# Altium integrated library Maxim Memory.IntLib: 366 symbols (part 1 of 7)
Pins are listed as number, name and electrical type; pins without a type are passive.

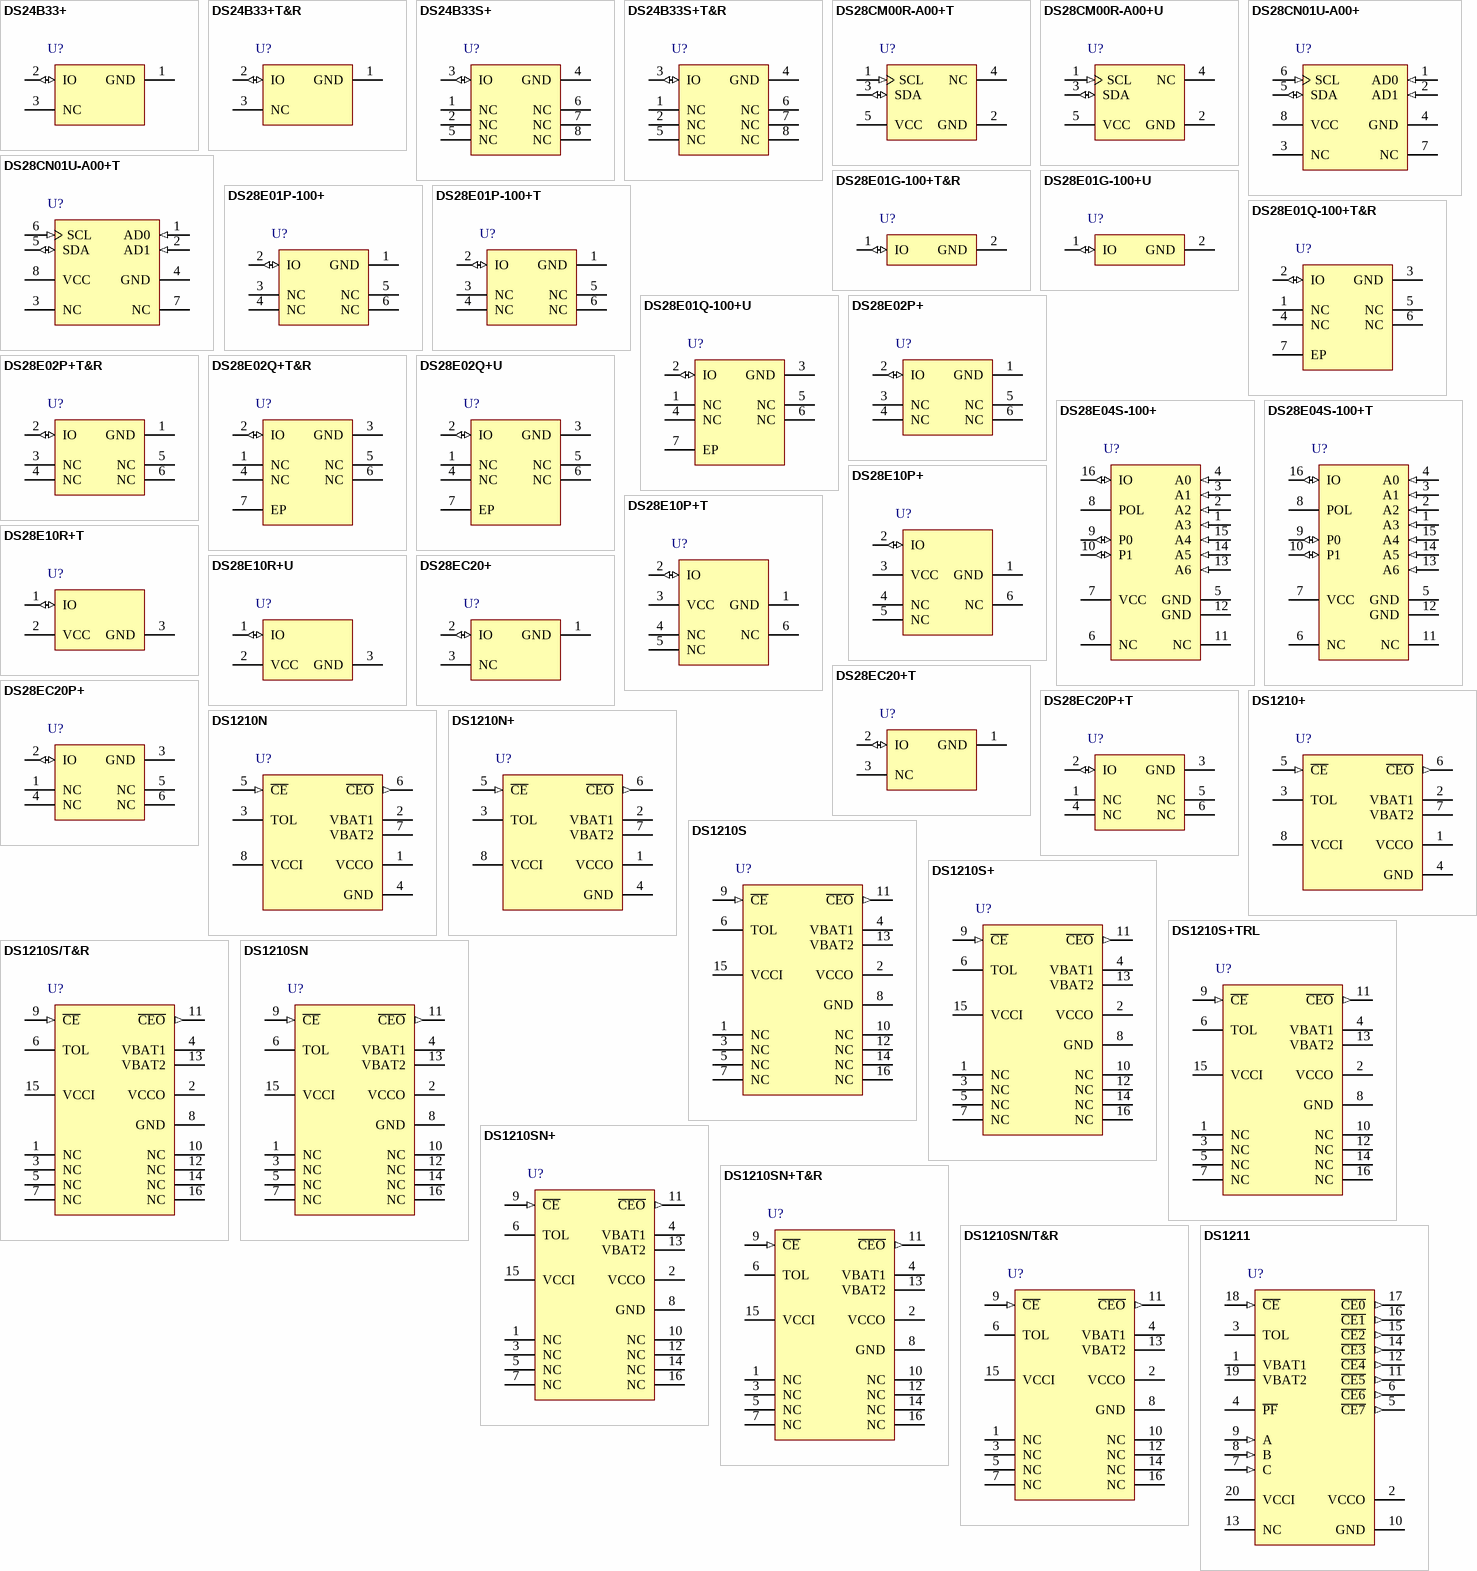
[diagram p0: symbols DS24B33+ to DS1211]

## DS24B33+
designator U?
4Kb 1-Wire EEPROM with 200k Write/Erase Cycles, 3-pin TO-92, -40° to + 85° C, Pb-Free; DatasheetVersion: 1/02/2011; PackageVersion: revB, 2009; PackageReference: Q3+1; PackageDescription: TO-92 Package, Body Dia. 4.7mm; Leads 0.51 x 0.51 mm (max), Pb-Free; Code_JEDEC: TO-226-AA; ComponentLink1Description: Manufacturer URL; ComponentLink1URL: www.maxim-ic.com; ComponentLink2Description: Datasheet; ComponentLink2URL: http://datasheets.maxim-ic.com/en/ds/DS24B33.pdf
footprint Q3+1 (TO, Flat Index; 3 In-Line, Axial Leads; Body Dia. 4.7mm; Leads 0.56 x 0.51 mm (max))
pins: 1 GND (power), 2 IO (io), 3 NC

## DS24B33+T&R
designator U?
4Kb 1-Wire EEPROM with 200k Write/Erase Cycles, 3-pin TO-92, -40° to + 85° C, Pb-Free, Tape and Reel; DatasheetVersion: 1/02/2011; PackageVersion: revB, 2010; PackageReference: Q3+4; PackageDescription: TO-92 Package, Formed Leads, Body Dia. 4.7mm; Leads 0.51 x 0.51 mm (max), Pb-Free; Code_JEDEC: TO-226-AA; ComponentLink1Description: Manufacturer URL; ComponentLink1URL: www.maxim-ic.com; ComponentLink2Description: Datasheet; ComponentLink2URL: http://datasheets.maxim-ic.com/en/ds/DS24B33.pdf
footprint Q3+4 (TO, Flat Index; 3 In-Line, Formed Axial Leads; Body Dia. 4.7mm; Leads 0.56 x 0.51 mm (max))
pins: 1 GND (power), 2 IO (io), 3 NC

## DS24B33S+
designator U?
4Kb 1-Wire EEPROM with 200k Write/Erase Cycles, 8-pin SOIC (208 mils), -40° to + 85° C, Pb-Free; DatasheetVersion: 1/02/2011; PackageVersion: revB, 2010; PackageReference: W8+2; PackageDescription: 8-Pin Small-Outline IC, 0.208in, 1.27 mm Pitch, SOIC, Pb-Free; ComponentLink1Description: Manufacturer URL; ComponentLink1URL: www.maxim-ic.com; ComponentLink2Description: Datasheet; ComponentLink2URL: http://datasheets.maxim-ic.com/en/ds/DS24B33.pdf
footprint W8+2_N (SOP, 8-Leads, Body 5.3x5.3mm, Pitch 1.27mm, IPC Medium Density)
footprint W8+2_L (SOP, 8-Leads, Body 5.3x5.3mm, Pitch 1.27mm, IPC High Density)
footprint W8+2_M (SOP, 8-Leads, Body 5.3x5.3mm, Pitch 1.27mm, IPC Low Density)
pins: 1 NC, 2 NC, 3 IO (io), 4 GND (power), 5 NC, 6 NC, 7 NC, 8 NC

## DS24B33S+T&R
designator U?
4Kb 1-Wire EEPROM with 200k Write/Erase Cycles, 8-pin SOIC (208 mils), -40° to + 85° C, Pb-Free, Tape and Reel; DatasheetVersion: 1/02/2011; PackageVersion: revB, 2010; PackageReference: W8+2; PackageDescription: 8-Pin Small-Outline IC, 0.208in, 1.27 mm Pitch, SOIC, Pb-Free; ComponentLink1Description: Manufacturer URL; ComponentLink1URL: www.maxim-ic.com; ComponentLink2Description: Datasheet; ComponentLink2URL: http://datasheets.maxim-ic.com/en/ds/DS24B33.pdf
footprint W8+2_N (SOP, 8-Leads, Body 5.3x5.3mm, Pitch 1.27mm, IPC Medium Density)
footprint W8+2_L (SOP, 8-Leads, Body 5.3x5.3mm, Pitch 1.27mm, IPC High Density)
footprint W8+2_M (SOP, 8-Leads, Body 5.3x5.3mm, Pitch 1.27mm, IPC Low Density)
pins: 1 NC, 2 NC, 3 IO (io), 4 GND (power), 5 NC, 6 NC, 7 NC, 8 NC

## DS28CM00R-A00+T
designator U?
I²C/SMBus Silicon Serial Number, 5-pin SOT23, -40° to + 85° C, Pb-Free, Tape and Reel; DatasheetVersion: 1/11/2006; PackageVersion: revF, 2006; PackageReference: U5+1; PackageDescription: 5-Pin Small-Outline Transistor Package, 0.95 mm Pitch, 2.8 mm Lead Span, SOT-23, Pb-Free; Code_JEDEC: MO-178AA; ComponentLink1Description: Manufacturer URL; ComponentLink1URL: www.maxim-ic.com; ComponentLink2Description: Datasheet; ComponentLink2URL: http://datasheets.maxim-ic.com/en/ds/DS28CM00.pdf
footprint U5+1_N (SOT23, 5-Leads, Body 2.9x1.6mm, Pitch 0.95mm, Lead Span 2.8mm, IPC Medium Density)
footprint U5+1_L (SOT23, 5-Leads, Body 2.9x1.6mm, Pitch 0.95mm, Lead Span 2.8mm, IPC High Density)
footprint U5+1_M (SOT23, 5-Leads, Body 2.9x1.6mm, Pitch 0.95mm, Lead Span 2.8mm, IPC Low Density)
pins: 1 SCL (in), 2 GND (power), 3 SDA (io), 4 NC, 5 VCC (power)

## DS28CM00R-A00+U
designator U?
I²C/SMBus Silicon Serial Number, 5-pin SOT23, -40° to + 85° C, Pb-Free, Cut Tape; DatasheetVersion: 1/11/2006; PackageVersion: revF, 2006; PackageReference: U5+1; PackageDescription: 5-Pin Small-Outline Transistor Package, 0.95 mm Pitch, 2.8 mm Lead Span, SOT-23, Pb-Free; Code_JEDEC: MO-178AA; ComponentLink1Description: Manufacturer URL; ComponentLink1URL: www.maxim-ic.com; ComponentLink2Description: Datasheet; ComponentLink2URL: http://datasheets.maxim-ic.com/en/ds/DS28CM00.pdf
footprint U5+1_N (SOT23, 5-Leads, Body 2.9x1.6mm, Pitch 0.95mm, Lead Span 2.8mm, IPC Medium Density)
footprint U5+1_L (SOT23, 5-Leads, Body 2.9x1.6mm, Pitch 0.95mm, Lead Span 2.8mm, IPC High Density)
footprint U5+1_M (SOT23, 5-Leads, Body 2.9x1.6mm, Pitch 0.95mm, Lead Span 2.8mm, IPC Low Density)
pins: 1 SCL (in), 2 GND (power), 3 SDA (io), 4 NC, 5 VCC (power)

## DS28CN01U-A00+
designator U?
1Kb I2C/SMBus EEPROM with SHA-1 Engine, 8-pin uSOP, -40° to + 85° C, Pb-Free; DatasheetVersion: 1/11/2009; PackageVersion: revL, 2009; PackageReference: U8+3; PackageDescription: 8-Pin Micro-MAX, Thin Shrink Small-Outline, 0.65 mm Pitch, uMAX, uSOP, Pb-Free; Code_JEDEC: MO-187-AA; ComponentLink1Description: Manufacturer URL; ComponentLink1URL: www.maxim-ic.com; ComponentLink2Description: Datasheet; ComponentLink2URL: http://datasheets.maxim-ic.com/en/ds/DS28CN01.pdf
footprint U8+3_N (TSOP, 8-Leads, Body 3x3mm, Pitch 0.65mm, IPC Medium Density)
footprint U8+3_L (TSOP, 8-Leads, Body 3x3mm, Pitch 0.65mm, IPC High Density)
footprint U8+3_M (TSOP, 8-Leads, Body 3x3mm, Pitch 0.65mm, IPC Low Density)
pins: 1 AD0 (in), 2 AD1 (in), 3 NC, 4 GND (power), 5 SDA (io), 6 SCL (in), 7 NC, 8 VCC (power)

## DS28CN01U-A00+T
designator U?
1Kb I2C/SMBus EEPROM with SHA-1 Engine, 8-pin uSOP, -40° to + 85° C, Pb-Free, Tape and Reel; DatasheetVersion: 1/11/2009; PackageVersion: revL, 2009; PackageReference: U8+3; PackageDescription: 8-Pin Micro-MAX, Thin Shrink Small-Outline, 0.65 mm Pitch, uMAX, uSOP, Pb-Free; Code_JEDEC: MO-187-AA; ComponentLink1Description: Manufacturer URL; ComponentLink1URL: www.maxim-ic.com; ComponentLink2Description: Datasheet; ComponentLink2URL: http://datasheets.maxim-ic.com/en/ds/DS28CN01.pdf
footprint U8+3_N (TSOP, 8-Leads, Body 3x3mm, Pitch 0.65mm, IPC Medium Density)
footprint U8+3_L (TSOP, 8-Leads, Body 3x3mm, Pitch 0.65mm, IPC High Density)
footprint U8+3_M (TSOP, 8-Leads, Body 3x3mm, Pitch 0.65mm, IPC Low Density)
pins: 1 AD0 (in), 2 AD1 (in), 3 NC, 4 GND (power), 5 SDA (io), 6 SCL (in), 7 NC, 8 VCC (power)

## DS28E01G-100+T&R
designator U?
1Kb Protected 1-Wire EEPROM with SHA-1 Engine, 2-pin SFN, -40° to + 85° C, Pb-Free, Tape and Reel; DatasheetVersion: 1/07/2010; PackageVersion: revB, 2009; PackageReference: G266N+1; PackageDescription: 2-Pin Quad Flatpack, No Leads, 6 x 6 x 0.9 mm Body, SFN, Pb-Free; ComponentLink1Description: Manufacturer URL; ComponentLink1URL: www.maxim-ic.com; ComponentLink2Description: Datasheet; ComponentLink2URL: http://datasheets.maxim-ic.com/en/ds/DS28E01-100.pdf
footprint G266N+1 (SFN, 2-Leads, Body 6x6mm)
pins: 1 IO (io), 2 GND (power)

## DS28E01G-100+U
designator U?
1Kb Protected 1-Wire EEPROM with SHA-1 Engine, 2-pin SFN, -40° to + 85° C, Pb-Free, Cut Tape; DatasheetVersion: 1/07/2010; PackageVersion: revB, 2009; PackageReference: G266N+1; PackageDescription: 2-Pin Quad Flatpack, No Leads, 6 x 6 x 0.9 mm Body, SFN, Pb-Free; ComponentLink1Description: Manufacturer URL; ComponentLink1URL: www.maxim-ic.com; ComponentLink2Description: Datasheet; ComponentLink2URL: http://datasheets.maxim-ic.com/en/ds/DS28E01-100.pdf
footprint G266N+1 (SFN, 2-Leads, Body 6x6mm)
pins: 1 IO (io), 2 GND (power)

## DS28E01P-100+
designator U?
1Kb Protected 1-Wire EEPROM with SHA-1 Engine, 6-pin TSOC, -40° to + 85° C, Pb-Free; DatasheetVersion: 1/07/2010; PackageVersion: revE, 2011; PackageReference: D6+1; PackageDescription: Thin Small-Outline, 6 C-Leads, 3.9 x 3.8 mm Body, 1.27 mm Pitch, TSOC, Pb-Free; ComponentLink1Description: Manufacturer URL; ComponentLink1URL: www.maxim-ic.com; ComponentLink2Description: Datasheet; ComponentLink2URL: http://datasheets.maxim-ic.com/en/ds/DS28E01-100.pdf
footprint D6+1 (Small Outline; 6 C-Bend Leads; Body Width 3.8 mm; Pitch 1.27 mm, Maxim Recommended)
pins: 1 GND (power), 2 IO (io), 3 NC, 4 NC, 5 NC, 6 NC

## DS28E01P-100+T
designator U?
1Kb Protected 1-Wire EEPROM with SHA-1 Engine, 6-pin TSOC, -40° to + 85° C, Pb-Free, Tape and Reel; DatasheetVersion: 1/07/2010; PackageVersion: revE, 2011; PackageReference: D6+1; PackageDescription: Thin Small-Outline, 6 C-Leads, 3.9 x 3.8 mm Body, 1.27 mm Pitch, TSOC, Pb-Free; ComponentLink1Description: Manufacturer URL; ComponentLink1URL: www.maxim-ic.com; ComponentLink2Description: Datasheet; ComponentLink2URL: http://datasheets.maxim-ic.com/en/ds/DS28E01-100.pdf
footprint D6+1 (Small Outline; 6 C-Bend Leads; Body Width 3.8 mm; Pitch 1.27 mm, Maxim Recommended)
pins: 1 GND (power), 2 IO (io), 3 NC, 4 NC, 5 NC, 6 NC

## DS28E01Q-100+T&R
designator U?
1Kb Protected 1-Wire EEPROM with SHA-1 Engine, 6-pin TDFN, -40° to + 85° C, Pb-Free, Tape and Reel; DatasheetVersion: 1/07/2010; PackageVersion: revJ, 2009; PackageReference: T633+2; PackageDescription: 6-Pin Plastic Very Very Thin Dual Flatpack No Leads, Exposed Pad, 3 x 3 x 0.8 mm Body, TDFN-EP, Pb-Free; Code_JEDEC: MO-229-WEEA; ComponentLink1Description: Manufacturer URL; ComponentLink1URL: www.maxim-ic.com; ComponentLink2Description: Datasheet; ComponentLink2URL: http://datasheets.maxim-ic.com/en/ds/DS28E01-100.pdf
footprint T633+2_V (SON, 6-Leads, Body 3x3mm, Pitch 0.95mm, Thermal Pad 2.35x1.6mm, Maxim Recommended)
pins: 1 NC, 2 IO (io), 3 GND (power), 4 NC, 5 NC, 6 NC, 7 EP

## DS28E01Q-100+U
designator U?
1Kb Protected 1-Wire EEPROM with SHA-1 Engine, 6-pin TDFN, -40° to + 85° C, Pb-Free, Cut Tape; DatasheetVersion: 1/07/2010; PackageVersion: revJ, 2009; PackageReference: T633+2; PackageDescription: 6-Pin Plastic Very Very Thin Dual Flatpack No Leads, Exposed Pad, 3 x 3 x 0.8 mm Body, TDFN-EP, Pb-Free; Code_JEDEC: MO-229-WEEA; ComponentLink1Description: Manufacturer URL; ComponentLink1URL: www.maxim-ic.com; ComponentLink2Description: Datasheet; ComponentLink2URL: http://datasheets.maxim-ic.com/en/ds/DS28E01-100.pdf
footprint T633+2_V (SON, 6-Leads, Body 3x3mm, Pitch 0.95mm, Thermal Pad 2.35x1.6mm, Maxim Recommended)
pins: 1 NC, 2 IO (io), 3 GND (power), 4 NC, 5 NC, 6 NC, 7 EP

## DS28E02P+
designator U?
1Kb 1-Wire SHA-1 Authenticated EEPROM with 1.8V Operation, 6-pin TSOC, -20° to + 85° C, Pb-Free; DatasheetVersion: 1/06/2010; PackageVersion: revE, 2011; PackageReference: D6+1; PackageDescription: Thin Small-Outline, 6 C-Leads, 3.9 x 3.8 mm Body, 1.27 mm Pitch, TSOC, Pb-Free; ComponentLink1Description: Manufacturer URL; ComponentLink1URL: www.maxim-ic.com; ComponentLink2Description: Datasheet; ComponentLink2URL: http://datasheets.maxim-ic.com/en/ds/DS28E02.pdf
footprint D6+1 (Small Outline; 6 C-Bend Leads; Body Width 3.8 mm; Pitch 1.27 mm, Maxim Recommended)
pins: 1 GND (power), 2 IO (io), 3 NC, 4 NC, 5 NC, 6 NC

## DS28E02P+T&R
designator U?
1Kb 1-Wire SHA-1 Authenticated EEPROM with 1.8V Operation, 6-pin TSOC, -20° to + 85° C, Pb-Free, Tape and Reel; DatasheetVersion: 1/06/2010; PackageVersion: revE, 2011; PackageReference: D6+1; PackageDescription: Thin Small-Outline, 6 C-Leads, 3.9 x 3.8 mm Body, 1.27 mm Pitch, TSOC, Pb-Free; ComponentLink1Description: Manufacturer URL; ComponentLink1URL: www.maxim-ic.com; ComponentLink2Description: Datasheet; ComponentLink2URL: http://datasheets.maxim-ic.com/en/ds/DS28E02.pdf
footprint D6+1 (Small Outline; 6 C-Bend Leads; Body Width 3.8 mm; Pitch 1.27 mm, Maxim Recommended)
pins: 1 GND (power), 2 IO (io), 3 NC, 4 NC, 5 NC, 6 NC

## DS28E02Q+T&R
designator U?
1Kb 1-Wire SHA-1 Authenticated EEPROM with 1.8V Operation, 6-pin TDFN, -20° to + 85° C, Pb-Free, Tape and Reel; DatasheetVersion: 1/06/2010; PackageVersion: revJ, 2009; PackageReference: T633+2; PackageDescription: 6-Pin Plastic Very Very Thin Dual Flatpack No Leads, Exposed Pad, 3 x 3 x 0.8 mm Body, TDFN-EP, Pb-Free; Code_JEDEC: MO-229-WEEA; ComponentLink1Description: Manufacturer URL; ComponentLink1URL: www.maxim-ic.com; ComponentLink2Description: Datasheet; ComponentLink2URL: http://datasheets.maxim-ic.com/en/ds/DS28E02.pdf
footprint T633+2_V (SON, 6-Leads, Body 3x3mm, Pitch 0.95mm, Thermal Pad 2.35x1.6mm, Maxim Recommended)
pins: 1 NC, 2 IO (io), 3 GND (power), 4 NC, 5 NC, 6 NC, 7 EP

## DS28E02Q+U
designator U?
1Kb 1-Wire SHA-1 Authenticated EEPROM with 1.8V Operation, 6-pin TDFN, -40° to + 85° C, Pb-Free, Cut Tape; DatasheetVersion: 1/06/2010; PackageVersion: revJ, 2009; PackageReference: T633+2; PackageDescription: 6-Pin Plastic Very Very Thin Dual Flatpack No Leads, Exposed Pad, 3 x 3 x 0.8 mm Body, TDFN-EP, Pb-Free; Code_JEDEC: MO-229-WEEA; ComponentLink1Description: Manufacturer URL; ComponentLink1URL: www.maxim-ic.com; ComponentLink2Description: Datasheet; ComponentLink2URL: http://datasheets.maxim-ic.com/en/ds/DS28E02.pdf
footprint T633+2_V (SON, 6-Leads, Body 3x3mm, Pitch 0.95mm, Thermal Pad 2.35x1.6mm, Maxim Recommended)
pins: 1 NC, 2 IO (io), 3 GND (power), 4 NC, 5 NC, 6 NC, 7 EP

## DS28E04S-100+
designator U?
4Kb Addressable 1-Wire EEPROM with PIO, 16-pin SOIC, -40° to + 85° C, Pb-Free; DatasheetVersion: 1/10/2004; PackageVersion: revC, 2010; PackageReference: S16+1; PackageDescription: 16-Pin Small-Outline IC, Narrow (0.15in), 1.27 mm Pitch, SOIC (N), Pb-Free; Code_JEDEC: MS-012-AC; Code_IPC: SOIC127P600-16; ComponentLink1Description: Manufacturer URL; ComponentLink1URL: www.maxim-ic.com; ComponentLink2Description: Datasheet; ComponentLink2URL: http://datasheets.maxim-ic.com/en/ds/DS28E04-100.pdf
footprint S16+1_N (SOIC, 16-Leads, Body 9.9x3.9mm, Pitch 1.27mm, IPC Medium Density)
footprint S16+1_L (SOIC, 16-Leads, Body 9.9x3.9mm, Pitch 1.27mm, IPC High Density)
footprint S16+1_M (SOIC, 16-Leads, Body 9.9x3.9mm, Pitch 1.27mm, IPC Low Density)
pins: 1 A3 (in), 2 A2 (in), 3 A1 (in), 4 A0 (in), 5 GND (power), 6 NC, 7 VCC (power), 8 POL, 9 P0 (io), 10 P1 (io), 11 NC, 12 GND (power), 13 A6 (in), 14 A5 (in), 15 A4 (in), 16 IO (io)

## DS28E04S-100+T
designator U?
4Kb Addressable 1-Wire EEPROM with PIO, 16-pin SOIC, -40° to + 85° C, Pb-Free, Tape and Reel; DatasheetVersion: 1/10/2004; PackageVersion: revC, 2010; PackageReference: S16+1; PackageDescription: 16-Pin Small-Outline IC, Narrow (0.15in), 1.27 mm Pitch, SOIC (N), Pb-Free; Code_JEDEC: MS-012-AC; Code_IPC: SOIC127P600-16; ComponentLink1Description: Manufacturer URL; ComponentLink1URL: www.maxim-ic.com; ComponentLink2Description: Datasheet; ComponentLink2URL: http://datasheets.maxim-ic.com/en/ds/DS28E04-100.pdf
footprint S16+1_N (SOIC, 16-Leads, Body 9.9x3.9mm, Pitch 1.27mm, IPC Medium Density)
footprint S16+1_L (SOIC, 16-Leads, Body 9.9x3.9mm, Pitch 1.27mm, IPC High Density)
footprint S16+1_M (SOIC, 16-Leads, Body 9.9x3.9mm, Pitch 1.27mm, IPC Low Density)
pins: 1 A3 (in), 2 A2 (in), 3 A1 (in), 4 A0 (in), 5 GND (power), 6 NC, 7 VCC (power), 8 POL, 9 P0 (io), 10 P1 (io), 11 NC, 12 GND (power), 13 A6 (in), 14 A5 (in), 15 A4 (in), 16 IO (io)

## DS28E10P+
designator U?
1-Wire SHA-1 Authenticator, 6-pin TSOC, -40° to + 85° C, Pb-Free; DatasheetVersion: 1/04/2011; PackageVersion: revE, 2011; PackageReference: D6+1; PackageDescription: Thin Small-Outline, 6 C-Leads, 3.9 x 3.8 mm Body, 1.27 mm Pitch, TSOC, Pb-Free; ComponentLink1Description: Manufacturer URL; ComponentLink1URL: www.maxim-ic.com; ComponentLink2Description: Datasheet; ComponentLink2URL: http://datasheets.maxim-ic.com/en/ds/DS28E10.pdf
footprint D6+1 (Small Outline; 6 C-Bend Leads; Body Width 3.8 mm; Pitch 1.27 mm, Maxim Recommended)
pins: 1 GND (power), 2 IO (io), 3 VCC (power), 4 NC, 5 NC, 6 NC

## DS28E10P+T
designator U?
1-Wire SHA-1 Authenticator, 6-pin TSOC, -40° to + 85° C, Pb-Free, Tape and Reel; DatasheetVersion: 1/04/2011; PackageVersion: revE, 2011; PackageReference: D6+1; PackageDescription: Thin Small-Outline, 6 C-Leads, 3.9 x 3.8 mm Body, 1.27 mm Pitch, TSOC, Pb-Free; ComponentLink1Description: Manufacturer URL; ComponentLink1URL: www.maxim-ic.com; ComponentLink2Description: Datasheet; ComponentLink2URL: http://datasheets.maxim-ic.com/en/ds/DS28E10.pdf
footprint D6+1 (Small Outline; 6 C-Bend Leads; Body Width 3.8 mm; Pitch 1.27 mm, Maxim Recommended)
pins: 1 GND (power), 2 IO (io), 3 VCC (power), 4 NC, 5 NC, 6 NC

## DS28E10R+T
designator U?
1-Wire SHA-1 Authenticator, 3-pin SOT23, -40° to + 85° C, Pb-Free, Tape and Reel; DatasheetVersion: 1/04/2011; PackageVersion: revI, 2010; PackageReference: U3+2; PackageDescription: 3-Pin Small-Outline Transistor Package 0.95 mm Pitch, 2.4 mm Lead Span, SOT-23, Pb-Free; Code_JEDEC: TO-236-AB; Code_IPC: SOT23-3; ComponentLink1Description: Manufacturer URL; ComponentLink1URL: www.maxim-ic.com; ComponentLink2Description: Datasheet; ComponentLink2URL: http://datasheets.maxim-ic.com/en/ds/DS28E10.pdf
footprint U3+2_N (SOT23, 3-Leads, Body 2.9x1.3mm, Pitch 0.95mm, Lead Span 2.4mm, IPC Medium Density)
footprint U3+2_L (SOT23, 3-Leads, Body 2.9x1.3mm, Pitch 0.95mm, Lead Span 2.4mm, IPC High Density)
footprint U3+2_M (SOT23, 3-Leads, Body 2.9x1.3mm, Pitch 0.95mm, Lead Span 2.4mm, IPC Low Density)
pins: 1 IO (io), 2 VCC (power), 3 GND (power)

## DS28E10R+U
designator U?
1-Wire SHA-1 Authenticator, 3-pin SOT23, -40° to + 85° C, Pb-Free, Cut Tape; DatasheetVersion: 1/04/2011; PackageVersion: revI, 2010; PackageReference: U3+2; PackageDescription: 3-Pin Small-Outline Transistor Package 0.95 mm Pitch, 2.4 mm Lead Span, SOT-23, Pb-Free; Code_JEDEC: TO-236-AB; Code_IPC: SOT23-3; ComponentLink1Description: Manufacturer URL; ComponentLink1URL: www.maxim-ic.com; ComponentLink2Description: Datasheet; ComponentLink2URL: http://datasheets.maxim-ic.com/en/ds/DS28E10.pdf
footprint U3+2_N (SOT23, 3-Leads, Body 2.9x1.3mm, Pitch 0.95mm, Lead Span 2.4mm, IPC Medium Density)
footprint U3+2_L (SOT23, 3-Leads, Body 2.9x1.3mm, Pitch 0.95mm, Lead Span 2.4mm, IPC High Density)
footprint U3+2_M (SOT23, 3-Leads, Body 2.9x1.3mm, Pitch 0.95mm, Lead Span 2.4mm, IPC Low Density)
pins: 1 IO (io), 2 VCC (power), 3 GND (power)

## DS28EC20+
designator U?
20Kb 1-Wire EEPROM, 3-pin TO-92, -40° to + 85° C, Pb-Free; DatasheetVersion: 1/04/2009; PackageVersion: revB, 2009; PackageReference: Q3+1; PackageDescription: TO-92 Package, Body Dia. 4.7mm; Leads 0.51 x 0.51 mm (max), Pb-Free; Code_JEDEC: TO-226-AA; ComponentLink1Description: Manufacturer URL; ComponentLink1URL: www.maxim-ic.com; ComponentLink2Description: Datasheet; ComponentLink2URL: http://datasheets.maxim-ic.com/en/ds/DS28EC20.pdf
footprint Q3+1 (TO, Flat Index; 3 In-Line, Axial Leads; Body Dia. 4.7mm; Leads 0.56 x 0.51 mm (max))
pins: 1 GND (power), 2 IO (io), 3 NC

## DS28EC20+T
designator U?
20Kb 1-Wire EEPROM, 3-pin TO-92, -40° to + 85° C, Pb-Free, Tape and Reel; DatasheetVersion: 1/04/2009; PackageVersion: revB, 2009; PackageReference: Q3+1; PackageDescription: TO-92 Package, Body Dia. 4.7mm; Leads 0.51 x 0.51 mm (max), Pb-Free; Code_JEDEC: TO-226-AA; ComponentLink1Description: Manufacturer URL; ComponentLink1URL: www.maxim-ic.com; ComponentLink2Description: Datasheet; ComponentLink2URL: http://datasheets.maxim-ic.com/en/ds/DS28EC20.pdf
footprint Q3+1 (TO, Flat Index; 3 In-Line, Axial Leads; Body Dia. 4.7mm; Leads 0.56 x 0.51 mm (max))
pins: 1 GND (power), 2 IO (io), 3 NC

## DS28EC20P+
designator U?
20Kb 1-Wire EEPROM, 6-pin TSOC, -40° to + 85° C, Pb-Free; DatasheetVersion: 1/04/2009; PackageVersion: revE, 2011; PackageReference: D6+1; PackageDescription: Thin Small-Outline, 6 C-Leads, 3.9 x 3.8 mm Body, 1.27 mm Pitch, TSOC, Pb-Free; ComponentLink1Description: Manufacturer URL; ComponentLink1URL: www.maxim-ic.com; ComponentLink2Description: Datasheet; ComponentLink2URL: http://datasheets.maxim-ic.com/en/ds/DS28EC20.pdf
footprint D6+1 (Small Outline; 6 C-Bend Leads; Body Width 3.8 mm; Pitch 1.27 mm, Maxim Recommended)
pins: 1 NC, 2 IO (io), 3 GND (power), 4 NC, 5 NC, 6 NC

## DS28EC20P+T
designator U?
20Kb 1-Wire EEPROM, 6-pin TSOC, -40° to + 85° C, Pb-Free, Tape and Reel; DatasheetVersion: 1/04/2009; PackageVersion: revE, 2011; PackageReference: D6+1; PackageDescription: Thin Small-Outline, 6 C-Leads, 3.9 x 3.8 mm Body, 1.27 mm Pitch, TSOC, Pb-Free; ComponentLink1Description: Manufacturer URL; ComponentLink1URL: www.maxim-ic.com; ComponentLink2Description: Datasheet; ComponentLink2URL: http://datasheets.maxim-ic.com/en/ds/DS28EC20.pdf
footprint D6+1 (Small Outline; 6 C-Bend Leads; Body Width 3.8 mm; Pitch 1.27 mm, Maxim Recommended)
pins: 1 NC, 2 IO (io), 3 GND (power), 4 NC, 5 NC, 6 NC

## DS1210+
designator U?
Nonvolatile Controller Chip, 8-pin PDIP, 0° to + 70° C, Pb-Free; DatasheetVersion: 1/09/2003; PackageVersion: revE, 2011; PackageReference: P8+4; PackageDescription: 8-Pin Plastic Dual-In-Line, Narrow (0.3in), Pitch 2.54 mm, PDIP(N), Pb-Free; Code_JEDEC: MS-001-AB; ComponentLink1Description: Manufacturer URL; ComponentLink1URL: www.maxim-ic.com; ComponentLink2Description: Datasheet; ComponentLink2URL: http://datasheets.maxim-ic.com/en/ds/DS1210.pdf
footprint P8+4 (DIP, 8-Leads, Row Spacing 7.62mm, Pitch 2.54mm, Body 9.4x7mm)
pins: 1 VCCO (power), 2 VBAT1, 3 TOL, 4 GND (power), 5 ~{CE} (in), 6 ~{CEO} (out), 7 VBAT2, 8 VCCI (power)

## DS1210N
designator U?
Nonvolatile Controller Chip, 8-pin PDIP, -40° to + 85° C; DatasheetVersion: 1/09/2003; PackageVersion: revE, 2011; PackageReference: P8-4; PackageDescription: 8-Pin Plastic Dual-In-Line, Narrow (0.3in), Pitch 2.54 mm, PDIP(N); Code_JEDEC: MS-001-AB; ComponentLink1Description: Manufacturer URL; ComponentLink1URL: www.maxim-ic.com; ComponentLink2Description: Datasheet; ComponentLink2URL: http://datasheets.maxim-ic.com/en/ds/DS1210.pdf
footprint P8-4 (DIP, 8-Leads, Row Spacing 7.62mm, Pitch 2.54mm, Body 9.4x7mm)
pins: 1 VCCO (power), 2 VBAT1, 3 TOL, 4 GND (power), 5 ~{CE} (in), 6 ~{CEO} (out), 7 VBAT2, 8 VCCI (power)

## DS1210N+
designator U?
Nonvolatile Controller Chip, 8-pin PDIP, -40° to + 85° C, Pb-Free; DatasheetVersion: 1/09/2003; PackageVersion: revE, 2011; PackageReference: P8+4; PackageDescription: 8-Pin Plastic Dual-In-Line, Narrow (0.3in), Pitch 2.54 mm, PDIP(N), Pb-Free; Code_JEDEC: MS-001-AB; ComponentLink1Description: Manufacturer URL; ComponentLink1URL: www.maxim-ic.com; ComponentLink2Description: Datasheet; ComponentLink2URL: http://datasheets.maxim-ic.com/en/ds/DS1210.pdf
footprint P8+4 (DIP, 8-Leads, Row Spacing 7.62mm, Pitch 2.54mm, Body 9.4x7mm)
pins: 1 VCCO (power), 2 VBAT1, 3 TOL, 4 GND (power), 5 ~{CE} (in), 6 ~{CEO} (out), 7 VBAT2, 8 VCCI (power)

## DS1210S
designator U?
Nonvolatile Controller Chip, 16-pin SOIC, 0° to + 70° C; DatasheetVersion: 1/09/2003; PackageVersion: revD, 2010; PackageReference: W16-2; PackageDescription: 16-Pin Small-Outline IC, Wide (0.3in), 1.27 mm Pitch, SOIC (W); Code_JEDEC: MS-013-AA; Code_IPC: SOIC127P1030-16; ComponentLink1Description: Manufacturer URL; ComponentLink1URL: www.maxim-ic.com; ComponentLink2Description: Datasheet; ComponentLink2URL: http://datasheets.maxim-ic.com/en/ds/DS1210.pdf
footprint W16-2_N (SOIC, 16-Leads, Body 10.3x7.5mm, Pitch 1.27mm, IPC Medium Density)
footprint W16-2_L (SOIC, 16-Leads, Body 10.3x7.5mm, Pitch 1.27mm, IPC High Density)
footprint W16-2_M (SOIC, 16-Leads, Body 10.3x7.5mm, Pitch 1.27mm, IPC Low Density)
pins: 1 NC, 2 VCCO (power), 3 NC, 4 VBAT1, 5 NC, 6 TOL, 7 NC, 8 GND (power), 9 ~{CE} (in), 10 NC, 11 ~{CEO} (out), 12 NC, 13 VBAT2, 14 NC, 15 VCCI (power), 16 NC

## DS1210S+
designator U?
Nonvolatile Controller Chip, 16-pin SOIC, 0° to + 70° C, Pb-Free; DatasheetVersion: 1/09/2003; PackageVersion: revD, 2010; PackageReference: W16+2; PackageDescription: 16-Pin Small-Outline IC, Wide (0.3in), 1.27 mm Pitch, SOIC (W), Pb-Free; Code_JEDEC: MS-013-AA; Code_IPC: SOIC127P1030-16; ComponentLink1Description: Manufacturer URL; ComponentLink1URL: www.maxim-ic.com; ComponentLink2Description: Datasheet; ComponentLink2URL: http://datasheets.maxim-ic.com/en/ds/DS1210.pdf
footprint W16+2_N (SOIC, 16-Leads, Body 10.3x7.5mm, Pitch 1.27mm, IPC Medium Density)
footprint W16+2_L (SOIC, 16-Leads, Body 10.3x7.5mm, Pitch 1.27mm, IPC High Density)
footprint W16+2_M (SOIC, 16-Leads, Body 10.3x7.5mm, Pitch 1.27mm, IPC Low Density)
pins: 1 NC, 2 VCCO (power), 3 NC, 4 VBAT1, 5 NC, 6 TOL, 7 NC, 8 GND (power), 9 ~{CE} (in), 10 NC, 11 ~{CEO} (out), 12 NC, 13 VBAT2, 14 NC, 15 VCCI (power), 16 NC

## DS1210S+TRL
designator U?
Nonvolatile Controller Chip, 16-pin SOIC, 0° to + 70° C, Pb-Free, Tape and Reel; DatasheetVersion: 1/09/2003; PackageVersion: revD, 2010; PackageReference: W16+2; PackageDescription: 16-Pin Small-Outline IC, Wide (0.3in), 1.27 mm Pitch, SOIC (W), Pb-Free; Code_JEDEC: MS-013-AA; Code_IPC: SOIC127P1030-16; ComponentLink1Description: Manufacturer URL; ComponentLink1URL: www.maxim-ic.com; ComponentLink2Description: Datasheet; ComponentLink2URL: http://datasheets.maxim-ic.com/en/ds/DS1210.pdf
footprint W16+2_N (SOIC, 16-Leads, Body 10.3x7.5mm, Pitch 1.27mm, IPC Medium Density)
footprint W16+2_L (SOIC, 16-Leads, Body 10.3x7.5mm, Pitch 1.27mm, IPC High Density)
footprint W16+2_M (SOIC, 16-Leads, Body 10.3x7.5mm, Pitch 1.27mm, IPC Low Density)
pins: 1 NC, 2 VCCO (power), 3 NC, 4 VBAT1, 5 NC, 6 TOL, 7 NC, 8 GND (power), 9 ~{CE} (in), 10 NC, 11 ~{CEO} (out), 12 NC, 13 VBAT2, 14 NC, 15 VCCI (power), 16 NC

## DS1210S/T&R
designator U?
Nonvolatile Controller Chip, 16-pin SOIC, 0° to + 70° C, Tape and Reel; DatasheetVersion: 1/09/2003; PackageVersion: revD, 2010; PackageReference: W16-2; PackageDescription: 16-Pin Small-Outline IC, Wide (0.3in), 1.27 mm Pitch, SOIC (W); Code_JEDEC: MS-013-AA; Code_IPC: SOIC127P1030-16; ComponentLink1Description: Manufacturer URL; ComponentLink1URL: www.maxim-ic.com; ComponentLink2Description: Datasheet; ComponentLink2URL: http://datasheets.maxim-ic.com/en/ds/DS1210.pdf
footprint W16-2_N (SOIC, 16-Leads, Body 10.3x7.5mm, Pitch 1.27mm, IPC Medium Density)
footprint W16-2_L (SOIC, 16-Leads, Body 10.3x7.5mm, Pitch 1.27mm, IPC High Density)
footprint W16-2_M (SOIC, 16-Leads, Body 10.3x7.5mm, Pitch 1.27mm, IPC Low Density)
pins: 1 NC, 2 VCCO (power), 3 NC, 4 VBAT1, 5 NC, 6 TOL, 7 NC, 8 GND (power), 9 ~{CE} (in), 10 NC, 11 ~{CEO} (out), 12 NC, 13 VBAT2, 14 NC, 15 VCCI (power), 16 NC

## DS1210SN
designator U?
Nonvolatile Controller Chip, 16-pin SOIC, -40° to + 85° C; DatasheetVersion: 1/09/2003; PackageVersion: revD, 2010; PackageReference: W16-2; PackageDescription: 16-Pin Small-Outline IC, Wide (0.3in), 1.27 mm Pitch, SOIC (W); Code_JEDEC: MS-013-AA; Code_IPC: SOIC127P1030-16; ComponentLink1Description: Manufacturer URL; ComponentLink1URL: www.maxim-ic.com; ComponentLink2Description: Datasheet; ComponentLink2URL: http://datasheets.maxim-ic.com/en/ds/DS1210.pdf
footprint W16-2_N (SOIC, 16-Leads, Body 10.3x7.5mm, Pitch 1.27mm, IPC Medium Density)
footprint W16-2_L (SOIC, 16-Leads, Body 10.3x7.5mm, Pitch 1.27mm, IPC High Density)
footprint W16-2_M (SOIC, 16-Leads, Body 10.3x7.5mm, Pitch 1.27mm, IPC Low Density)
pins: 1 NC, 2 VCCO (power), 3 NC, 4 VBAT1, 5 NC, 6 TOL, 7 NC, 8 GND (power), 9 ~{CE} (in), 10 NC, 11 ~{CEO} (out), 12 NC, 13 VBAT2, 14 NC, 15 VCCI (power), 16 NC

## DS1210SN+
designator U?
Nonvolatile Controller Chip, 16-pin SOIC, -40° to + 85° C, Pb-Free; DatasheetVersion: 1/09/2003; PackageVersion: revD, 2010; PackageReference: W16+2; PackageDescription: 16-Pin Small-Outline IC, Wide (0.3in), 1.27 mm Pitch, SOIC (W), Pb-Free; Code_JEDEC: MS-013-AA; Code_IPC: SOIC127P1030-16; ComponentLink1Description: Manufacturer URL; ComponentLink1URL: www.maxim-ic.com; ComponentLink2Description: Datasheet; ComponentLink2URL: http://datasheets.maxim-ic.com/en/ds/DS1210.pdf
footprint W16+2_N (SOIC, 16-Leads, Body 10.3x7.5mm, Pitch 1.27mm, IPC Medium Density)
footprint W16+2_L (SOIC, 16-Leads, Body 10.3x7.5mm, Pitch 1.27mm, IPC High Density)
footprint W16+2_M (SOIC, 16-Leads, Body 10.3x7.5mm, Pitch 1.27mm, IPC Low Density)
pins: 1 NC, 2 VCCO (power), 3 NC, 4 VBAT1, 5 NC, 6 TOL, 7 NC, 8 GND (power), 9 ~{CE} (in), 10 NC, 11 ~{CEO} (out), 12 NC, 13 VBAT2, 14 NC, 15 VCCI (power), 16 NC

## DS1210SN+T&R
designator U?
Nonvolatile Controller Chip, 16-pin SOIC, -40° to + 85° C, Pb-Free, Tape and Reel; DatasheetVersion: 1/09/2003; PackageVersion: revD, 2010; PackageReference: W16+2; PackageDescription: 16-Pin Small-Outline IC, Wide (0.3in), 1.27 mm Pitch, SOIC (W), Pb-Free; Code_JEDEC: MS-013-AA; Code_IPC: SOIC127P1030-16; ComponentLink1Description: Manufacturer URL; ComponentLink1URL: www.maxim-ic.com; ComponentLink2Description: Datasheet; ComponentLink2URL: http://datasheets.maxim-ic.com/en/ds/DS1210.pdf
footprint W16+2_N (SOIC, 16-Leads, Body 10.3x7.5mm, Pitch 1.27mm, IPC Medium Density)
footprint W16+2_L (SOIC, 16-Leads, Body 10.3x7.5mm, Pitch 1.27mm, IPC High Density)
footprint W16+2_M (SOIC, 16-Leads, Body 10.3x7.5mm, Pitch 1.27mm, IPC Low Density)
pins: 1 NC, 2 VCCO (power), 3 NC, 4 VBAT1, 5 NC, 6 TOL, 7 NC, 8 GND (power), 9 ~{CE} (in), 10 NC, 11 ~{CEO} (out), 12 NC, 13 VBAT2, 14 NC, 15 VCCI (power), 16 NC

## DS1210SN/T&R
designator U?
Nonvolatile Controller Chip, 16-pin SOIC, -40° to + 85° C, Tape and Reel; DatasheetVersion: 1/09/2003; PackageVersion: revD, 2010; PackageReference: W16-2; PackageDescription: 16-Pin Small-Outline IC, Wide (0.3in), 1.27 mm Pitch, SOIC (W); Code_JEDEC: MS-013-AA; Code_IPC: SOIC127P1030-16; ComponentLink1Description: Manufacturer URL; ComponentLink1URL: www.maxim-ic.com; ComponentLink2Description: Datasheet; ComponentLink2URL: http://datasheets.maxim-ic.com/en/ds/DS1210.pdf
footprint W16-2_N (SOIC, 16-Leads, Body 10.3x7.5mm, Pitch 1.27mm, IPC Medium Density)
footprint W16-2_L (SOIC, 16-Leads, Body 10.3x7.5mm, Pitch 1.27mm, IPC High Density)
footprint W16-2_M (SOIC, 16-Leads, Body 10.3x7.5mm, Pitch 1.27mm, IPC Low Density)
pins: 1 NC, 2 VCCO (power), 3 NC, 4 VBAT1, 5 NC, 6 TOL, 7 NC, 8 GND (power), 9 ~{CE} (in), 10 NC, 11 ~{CEO} (out), 12 NC, 13 VBAT2, 14 NC, 15 VCCI (power), 16 NC

## DS1211
designator U?
Nonvolatile Controller x 8 Chip, 20-pin PDIP, 0° to + 70° C; DatasheetVersion: 1/11/1999; PackageVersion: revE, 2011; PackageReference: P20-3; PackageDescription: 20-Pin Plastic Dual-In-Line, Narrow (0.3in), Pitch 2.54 mm, PDIP(N); Code_JEDEC: MS-001-AE; ComponentLink1Description: Manufacturer URL; ComponentLink1URL: www.maxim-ic.com; ComponentLink2Description: Datasheet; ComponentLink2URL: http://datasheets.maxim-ic.com/en/ds/DS1211.pdf
footprint P20-3 (DIP, 20-Leads, Row Spacing 7.62mm, Pitch 2.54mm, Body 26.2x7mm)
pins: 1 VBAT1, 2 VCCO (power), 3 TOL, 4 ~{PF}, 5 ~{CE7} (out), 6 ~{CE6} (out), 7 C (in), 8 B (in), 9 A (in), 10 GND (power), 11 ~{CE5} (out), 12 ~{CE4} (out), 13 NC, 14 ~{CE3} (out), 15 ~{CE2} (out), 16 ~{CE1} (out), 17 ~{CE0} (out), 18 ~{CE} (in), 19 VBAT2, 20 VCCI (power)

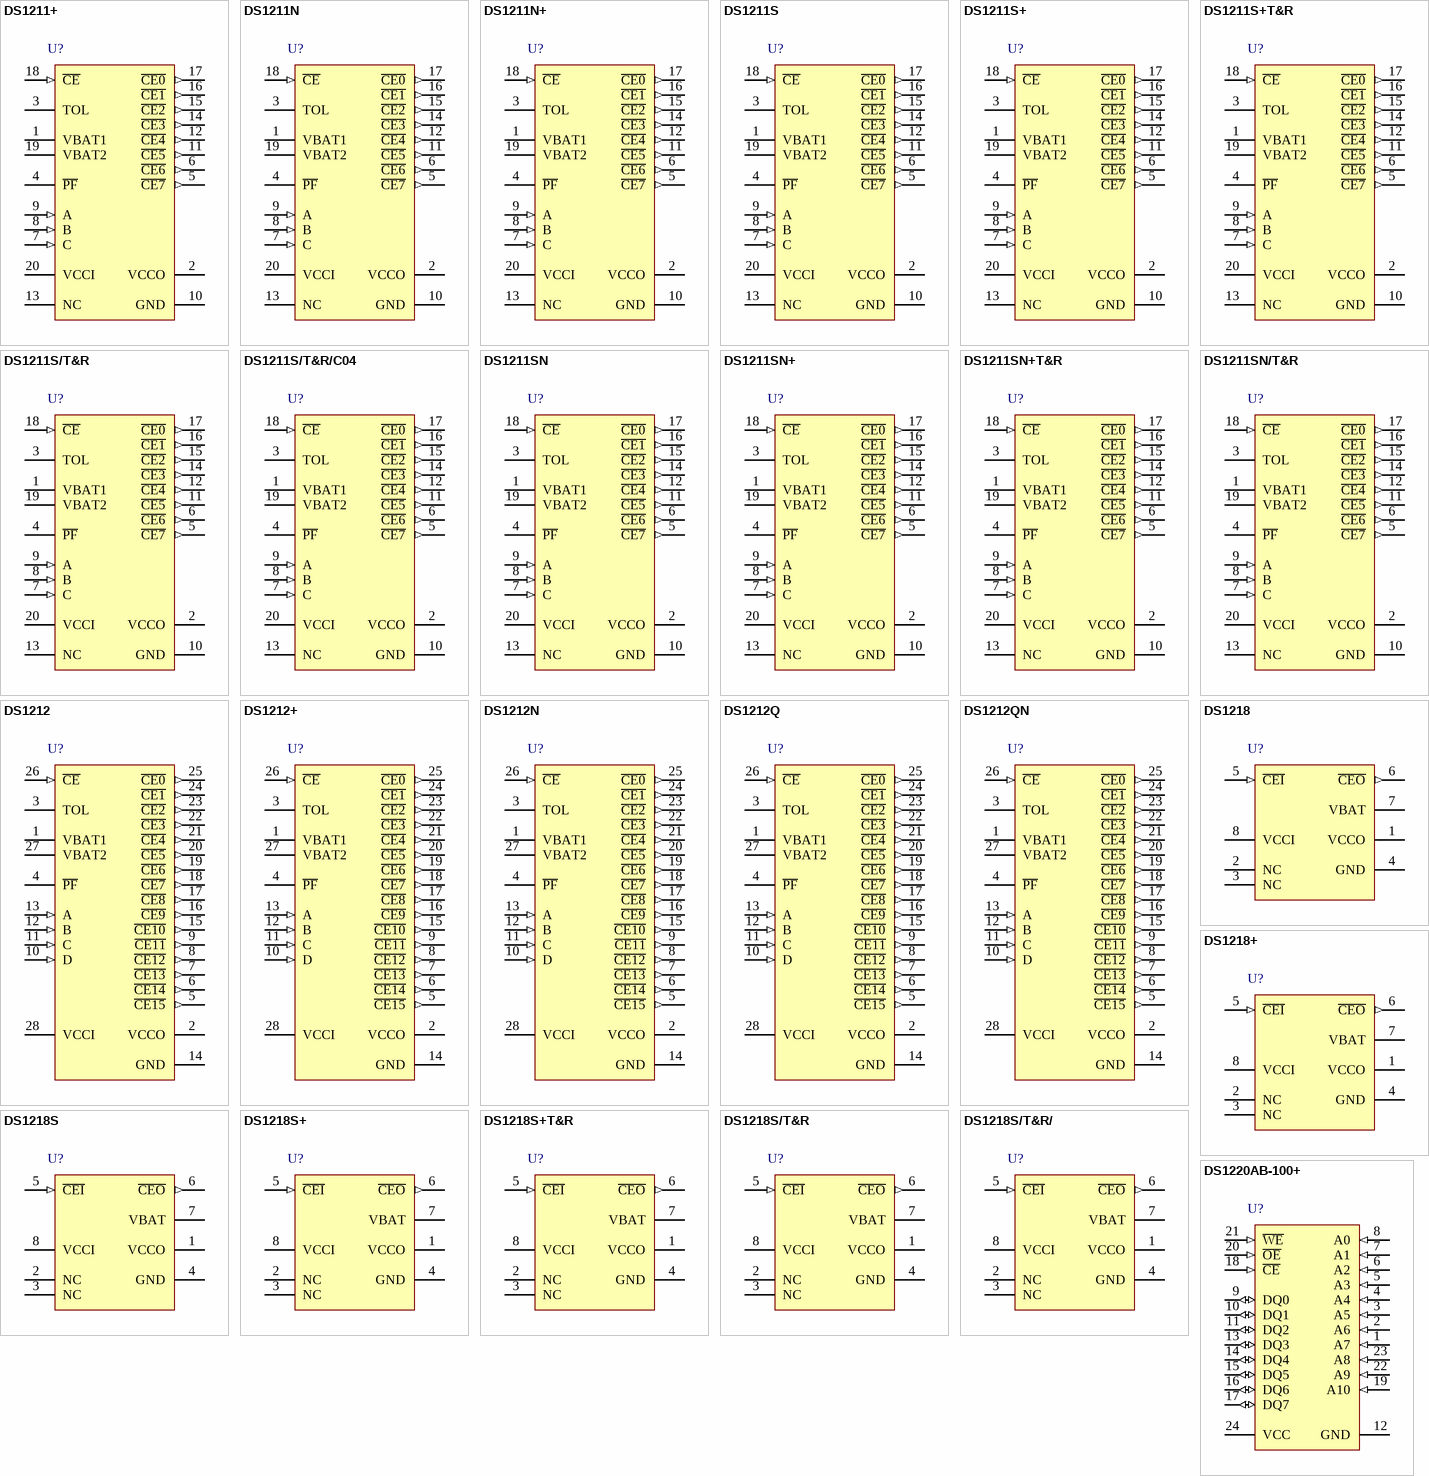
[diagram p1: symbols DS1211+ to DS1220AB-100+]

## DS1211+
designator U?
Nonvolatile Controller x 8 Chip, 20-pin PDIP, 0° to + 70° C, Pb-Free; DatasheetVersion: 1/11/1999; PackageVersion: revE, 2011; PackageReference: P20+3; PackageDescription: 20-Pin Plastic Dual-In-Line, Narrow (0.3in), Pitch 2.54 mm, PDIP(N), Pb-Free; Code_JEDEC: MS-001-AE; ComponentLink1Description: Manufacturer URL; ComponentLink1URL: www.maxim-ic.com; ComponentLink2Description: Datasheet; ComponentLink2URL: http://datasheets.maxim-ic.com/en/ds/DS1211.pdf
footprint P20+3 (DIP, 20-Leads, Row Spacing 7.62mm, Pitch 2.54mm, Body 26.2x7mm)
pins: 1 VBAT1, 2 VCCO (power), 3 TOL, 4 ~{PF}, 5 ~{CE7} (out), 6 ~{CE6} (out), 7 C (in), 8 B (in), 9 A (in), 10 GND (power), 11 ~{CE5} (out), 12 ~{CE4} (out), 13 NC, 14 ~{CE3} (out), 15 ~{CE2} (out), 16 ~{CE1} (out), 17 ~{CE0} (out), 18 ~{CE} (in), 19 VBAT2, 20 VCCI (power)

## DS1211N
designator U?
Nonvolatile Controller x 8 Chip, 20-pin PDIP, -40° to + 85° C; DatasheetVersion: 1/11/1999; PackageVersion: revE, 2011; PackageReference: P20-3; PackageDescription: 20-Pin Plastic Dual-In-Line, Narrow (0.3in), Pitch 2.54 mm, PDIP(N); Code_JEDEC: MS-001-AE; ComponentLink1Description: Manufacturer URL; ComponentLink1URL: www.maxim-ic.com; ComponentLink2Description: Datasheet; ComponentLink2URL: http://datasheets.maxim-ic.com/en/ds/DS1211.pdf
footprint P20-3 (DIP, 20-Leads, Row Spacing 7.62mm, Pitch 2.54mm, Body 26.2x7mm)
pins: 1 VBAT1, 2 VCCO (power), 3 TOL, 4 ~{PF}, 5 ~{CE7} (out), 6 ~{CE6} (out), 7 C (in), 8 B (in), 9 A (in), 10 GND (power), 11 ~{CE5} (out), 12 ~{CE4} (out), 13 NC, 14 ~{CE3} (out), 15 ~{CE2} (out), 16 ~{CE1} (out), 17 ~{CE0} (out), 18 ~{CE} (in), 19 VBAT2, 20 VCCI (power)

## DS1211N+
designator U?
Nonvolatile Controller x 8 Chip, 20-pin PDIP, -40° to + 85° C, Pb-Free; DatasheetVersion: 1/11/1999; PackageVersion: revE, 2011; PackageReference: P20+3; PackageDescription: 20-Pin Plastic Dual-In-Line, Narrow (0.3in), Pitch 2.54 mm, PDIP(N), Pb-Free; Code_JEDEC: MS-001-AE; ComponentLink1Description: Manufacturer URL; ComponentLink1URL: www.maxim-ic.com; ComponentLink2Description: Datasheet; ComponentLink2URL: http://datasheets.maxim-ic.com/en/ds/DS1211.pdf
footprint P20+3 (DIP, 20-Leads, Row Spacing 7.62mm, Pitch 2.54mm, Body 26.2x7mm)
pins: 1 VBAT1, 2 VCCO (power), 3 TOL, 4 ~{PF}, 5 ~{CE7} (out), 6 ~{CE6} (out), 7 C (in), 8 B (in), 9 A (in), 10 GND (power), 11 ~{CE5} (out), 12 ~{CE4} (out), 13 NC, 14 ~{CE3} (out), 15 ~{CE2} (out), 16 ~{CE1} (out), 17 ~{CE0} (out), 18 ~{CE} (in), 19 VBAT2, 20 VCCI (power)

## DS1211S
designator U?
Nonvolatile Controller x 8 Chip, 20-pin SOIC, 0° to + 70° C; DatasheetVersion: 1/11/1999; PackageVersion: revD, 2010; PackageReference: W20-3; PackageDescription: 20-Pin Small-Outline IC, Wide (0.3in), 1.27 mm Pitch, SOIC (W); Code_JEDEC: MS-013-AC; Code_IPC: SOIC127P1030-20; ComponentLink1Description: Manufacturer URL; ComponentLink1URL: www.maxim-ic.com; ComponentLink2Description: Datasheet; ComponentLink2URL: http://datasheets.maxim-ic.com/en/ds/DS1211.pdf
footprint W20-3_N (SOIC, 20-Leads, Body 12.8x7.5mm, Pitch 1.27mm, IPC Medium Density)
footprint W20-3_L (SOIC, 20-Leads, Body 12.8x7.5mm, Pitch 1.27mm, IPC High Density)
footprint W20-3_M (SOIC, 20-Leads, Body 12.8x7.5mm, Pitch 1.27mm, IPC Low Density)
pins: 1 VBAT1, 2 VCCO (power), 3 TOL, 4 ~{PF}, 5 ~{CE7} (out), 6 ~{CE6} (out), 7 C (in), 8 B (in), 9 A (in), 10 GND (power), 11 ~{CE5} (out), 12 ~{CE4} (out), 13 NC, 14 ~{CE3} (out), 15 ~{CE2} (out), 16 ~{CE1} (out), 17 ~{CE0} (out), 18 ~{CE} (in), 19 VBAT2, 20 VCCI (power)

## DS1211S+
designator U?
Nonvolatile Controller x 8 Chip, 20-pin SOIC, 0° to + 70° C, Pb-Free; DatasheetVersion: 1/11/1999; PackageVersion: revD, 2010; PackageReference: W20+3; PackageDescription: 20-Pin Small-Outline IC, Wide (0.3in), 1.27 mm Pitch, SOIC (W), Pb-Free; Code_JEDEC: MS-013-AC; Code_IPC: SOIC127P1030-20; ComponentLink1Description: Manufacturer URL; ComponentLink1URL: www.maxim-ic.com; ComponentLink2Description: Datasheet; ComponentLink2URL: http://datasheets.maxim-ic.com/en/ds/DS1211.pdf
footprint W20+3_N (SOIC, 20-Leads, Body 12.8x7.5mm, Pitch 1.27mm, IPC Medium Density)
footprint W20+3_L (SOIC, 20-Leads, Body 12.8x7.5mm, Pitch 1.27mm, IPC High Density)
footprint W20+3_M (SOIC, 20-Leads, Body 12.8x7.5mm, Pitch 1.27mm, IPC Low Density)
pins: 1 VBAT1, 2 VCCO (power), 3 TOL, 4 ~{PF}, 5 ~{CE7} (out), 6 ~{CE6} (out), 7 C (in), 8 B (in), 9 A (in), 10 GND (power), 11 ~{CE5} (out), 12 ~{CE4} (out), 13 NC, 14 ~{CE3} (out), 15 ~{CE2} (out), 16 ~{CE1} (out), 17 ~{CE0} (out), 18 ~{CE} (in), 19 VBAT2, 20 VCCI (power)

## DS1211S+T&R
designator U?
Nonvolatile Controller x 8 Chip, 20-pin SOIC, 0° to + 70° C, Pb-Free, Tape and Reel; DatasheetVersion: 1/11/1999; PackageVersion: revD, 2010; PackageReference: W20+3; PackageDescription: 20-Pin Small-Outline IC, Wide (0.3in), 1.27 mm Pitch, SOIC (W), Pb-Free; Code_JEDEC: MS-013-AC; Code_IPC: SOIC127P1030-20; ComponentLink1Description: Manufacturer URL; ComponentLink1URL: www.maxim-ic.com; ComponentLink2Description: Datasheet; ComponentLink2URL: http://datasheets.maxim-ic.com/en/ds/DS1211.pdf
footprint W20+3_N (SOIC, 20-Leads, Body 12.8x7.5mm, Pitch 1.27mm, IPC Medium Density)
footprint W20+3_L (SOIC, 20-Leads, Body 12.8x7.5mm, Pitch 1.27mm, IPC High Density)
footprint W20+3_M (SOIC, 20-Leads, Body 12.8x7.5mm, Pitch 1.27mm, IPC Low Density)
pins: 1 VBAT1, 2 VCCO (power), 3 TOL, 4 ~{PF}, 5 ~{CE7} (out), 6 ~{CE6} (out), 7 C (in), 8 B (in), 9 A (in), 10 GND (power), 11 ~{CE5} (out), 12 ~{CE4} (out), 13 NC, 14 ~{CE3} (out), 15 ~{CE2} (out), 16 ~{CE1} (out), 17 ~{CE0} (out), 18 ~{CE} (in), 19 VBAT2, 20 VCCI (power)

## DS1211S/T&R
designator U?
Nonvolatile Controller x 8 Chip, 20-pin SOIC, 0° to + 70° C, Tape and Reel; DatasheetVersion: 1/11/1999; PackageVersion: revD, 2010; PackageReference: W20-3; PackageDescription: 20-Pin Small-Outline IC, Wide (0.3in), 1.27 mm Pitch, SOIC (W); Code_JEDEC: MS-013-AC; Code_IPC: SOIC127P1030-20; ComponentLink1Description: Manufacturer URL; ComponentLink1URL: www.maxim-ic.com; ComponentLink2Description: Datasheet; ComponentLink2URL: http://datasheets.maxim-ic.com/en/ds/DS1211.pdf
footprint W20-3_N (SOIC, 20-Leads, Body 12.8x7.5mm, Pitch 1.27mm, IPC Medium Density)
footprint W20-3_L (SOIC, 20-Leads, Body 12.8x7.5mm, Pitch 1.27mm, IPC High Density)
footprint W20-3_M (SOIC, 20-Leads, Body 12.8x7.5mm, Pitch 1.27mm, IPC Low Density)
pins: 1 VBAT1, 2 VCCO (power), 3 TOL, 4 ~{PF}, 5 ~{CE7} (out), 6 ~{CE6} (out), 7 C (in), 8 B (in), 9 A (in), 10 GND (power), 11 ~{CE5} (out), 12 ~{CE4} (out), 13 NC, 14 ~{CE3} (out), 15 ~{CE2} (out), 16 ~{CE1} (out), 17 ~{CE0} (out), 18 ~{CE} (in), 19 VBAT2, 20 VCCI (power)

## DS1211S/T&R/C04
designator U?
Nonvolatile Controller x 8 Chip, 20-pin SOIC, 0° to + 70° C, Tape and Reel; DatasheetVersion: 1/11/1999; PackageVersion: revD, 2010; PackageReference: W20-3; PackageDescription: 20-Pin Small-Outline IC, Wide (0.3in), 1.27 mm Pitch, SOIC (W); Code_JEDEC: MS-013-AC; Code_IPC: SOIC127P1030-20; ComponentLink1Description: Manufacturer URL; ComponentLink1URL: www.maxim-ic.com; ComponentLink2Description: Datasheet; ComponentLink2URL: http://datasheets.maxim-ic.com/en/ds/DS1211.pdf
footprint W20-3_N (SOIC, 20-Leads, Body 12.8x7.5mm, Pitch 1.27mm, IPC Medium Density)
footprint W20-3_L (SOIC, 20-Leads, Body 12.8x7.5mm, Pitch 1.27mm, IPC High Density)
footprint W20-3_M (SOIC, 20-Leads, Body 12.8x7.5mm, Pitch 1.27mm, IPC Low Density)
pins: 1 VBAT1, 2 VCCO (power), 3 TOL, 4 ~{PF}, 5 ~{CE7} (out), 6 ~{CE6} (out), 7 C (in), 8 B (in), 9 A (in), 10 GND (power), 11 ~{CE5} (out), 12 ~{CE4} (out), 13 NC, 14 ~{CE3} (out), 15 ~{CE2} (out), 16 ~{CE1} (out), 17 ~{CE0} (out), 18 ~{CE} (in), 19 VBAT2, 20 VCCI (power)

## DS1211SN
designator U?
Nonvolatile Controller x 8 Chip, 20-pin SOIC, -40° to + 85° C; DatasheetVersion: 1/11/1999; PackageVersion: revD, 2010; PackageReference: W20-3; PackageDescription: 20-Pin Small-Outline IC, Wide (0.3in), 1.27 mm Pitch, SOIC (W); Code_JEDEC: MS-013-AC; Code_IPC: SOIC127P1030-20; ComponentLink1Description: Manufacturer URL; ComponentLink1URL: www.maxim-ic.com; ComponentLink2Description: Datasheet; ComponentLink2URL: http://datasheets.maxim-ic.com/en/ds/DS1211.pdf
footprint W20-3_N (SOIC, 20-Leads, Body 12.8x7.5mm, Pitch 1.27mm, IPC Medium Density)
footprint W20-3_L (SOIC, 20-Leads, Body 12.8x7.5mm, Pitch 1.27mm, IPC High Density)
footprint W20-3_M (SOIC, 20-Leads, Body 12.8x7.5mm, Pitch 1.27mm, IPC Low Density)
pins: 1 VBAT1, 2 VCCO (power), 3 TOL, 4 ~{PF}, 5 ~{CE7} (out), 6 ~{CE6} (out), 7 C (in), 8 B (in), 9 A (in), 10 GND (power), 11 ~{CE5} (out), 12 ~{CE4} (out), 13 NC, 14 ~{CE3} (out), 15 ~{CE2} (out), 16 ~{CE1} (out), 17 ~{CE0} (out), 18 ~{CE} (in), 19 VBAT2, 20 VCCI (power)

## DS1211SN+
designator U?
Nonvolatile Controller x 8 Chip, 20-pin SOIC, -40° to + 85° C, Pb-Free; DatasheetVersion: 1/11/1999; PackageVersion: revD, 2010; PackageReference: W20+3; PackageDescription: 20-Pin Small-Outline IC, Wide (0.3in), 1.27 mm Pitch, SOIC (W), Pb-Free; Code_JEDEC: MS-013-AC; Code_IPC: SOIC127P1030-20; ComponentLink1Description: Manufacturer URL; ComponentLink1URL: www.maxim-ic.com; ComponentLink2Description: Datasheet; ComponentLink2URL: http://datasheets.maxim-ic.com/en/ds/DS1211.pdf
footprint W20+3_N (SOIC, 20-Leads, Body 12.8x7.5mm, Pitch 1.27mm, IPC Medium Density)
footprint W20+3_L (SOIC, 20-Leads, Body 12.8x7.5mm, Pitch 1.27mm, IPC High Density)
footprint W20+3_M (SOIC, 20-Leads, Body 12.8x7.5mm, Pitch 1.27mm, IPC Low Density)
pins: 1 VBAT1, 2 VCCO (power), 3 TOL, 4 ~{PF}, 5 ~{CE7} (out), 6 ~{CE6} (out), 7 C (in), 8 B (in), 9 A (in), 10 GND (power), 11 ~{CE5} (out), 12 ~{CE4} (out), 13 NC, 14 ~{CE3} (out), 15 ~{CE2} (out), 16 ~{CE1} (out), 17 ~{CE0} (out), 18 ~{CE} (in), 19 VBAT2, 20 VCCI (power)

## DS1211SN+T&R
designator U?
Nonvolatile Controller x 8 Chip, 20-pin SOIC, -40° to + 85° C, Pb-Free, Tape and Reel; DatasheetVersion: 1/11/1999; PackageVersion: revD, 2010; PackageReference: W20+3; PackageDescription: 20-Pin Small-Outline IC, Wide (0.3in), 1.27 mm Pitch, SOIC (W), Pb-Free; Code_JEDEC: MS-013-AC; Code_IPC: SOIC127P1030-20; ComponentLink1Description: Manufacturer URL; ComponentLink1URL: www.maxim-ic.com; ComponentLink2Description: Datasheet; ComponentLink2URL: http://datasheets.maxim-ic.com/en/ds/DS1211.pdf
footprint W20+3_N (SOIC, 20-Leads, Body 12.8x7.5mm, Pitch 1.27mm, IPC Medium Density)
footprint W20+3_L (SOIC, 20-Leads, Body 12.8x7.5mm, Pitch 1.27mm, IPC High Density)
footprint W20+3_M (SOIC, 20-Leads, Body 12.8x7.5mm, Pitch 1.27mm, IPC Low Density)
pins: 1 VBAT1, 2 VCCO (power), 3 TOL, 4 ~{PF}, 5 ~{CE7} (out), 6 ~{CE6} (out), 7 C (in), 8 B (in), 9 A (in), 10 GND (power), 11 ~{CE5} (out), 12 ~{CE4} (out), 13 NC, 14 ~{CE3} (out), 15 ~{CE2} (out), 16 ~{CE1} (out), 17 ~{CE0} (out), 18 ~{CE} (in), 19 VBAT2, 20 VCCI (power)

## DS1211SN/T&R
designator U?
Nonvolatile Controller x 8 Chip, 20-pin SOIC, -40° to + 85° C, Tape and Reel; DatasheetVersion: 1/11/1999; PackageVersion: revD, 2010; PackageReference: W20-3; PackageDescription: 20-Pin Small-Outline IC, Wide (0.3in), 1.27 mm Pitch, SOIC (W); Code_JEDEC: MS-013-AC; Code_IPC: SOIC127P1030-20; ComponentLink1Description: Manufacturer URL; ComponentLink1URL: www.maxim-ic.com; ComponentLink2Description: Datasheet; ComponentLink2URL: http://datasheets.maxim-ic.com/en/ds/DS1211.pdf
footprint W20-3_N (SOIC, 20-Leads, Body 12.8x7.5mm, Pitch 1.27mm, IPC Medium Density)
footprint W20-3_L (SOIC, 20-Leads, Body 12.8x7.5mm, Pitch 1.27mm, IPC High Density)
footprint W20-3_M (SOIC, 20-Leads, Body 12.8x7.5mm, Pitch 1.27mm, IPC Low Density)
pins: 1 VBAT1, 2 VCCO (power), 3 TOL, 4 ~{PF}, 5 ~{CE7} (out), 6 ~{CE6} (out), 7 C (in), 8 B (in), 9 A (in), 10 GND (power), 11 ~{CE5} (out), 12 ~{CE4} (out), 13 NC, 14 ~{CE3} (out), 15 ~{CE2} (out), 16 ~{CE1} (out), 17 ~{CE0} (out), 18 ~{CE} (in), 19 VBAT2, 20 VCCI (power)

## DS1212
designator U?
Nonvolatile Controller x 16 Chip, 28-pin PDIP, 0° to + 70° C; DatasheetVersion: 1/11/1999; PackageVersion: revD, 2011; PackageReference: P28-3; PackageDescription: 28-Pin Plastic Dual-In-Line, 0.6in Wide, PDIP(W); Code_JEDEC: MS-011-AB; ComponentLink1Description: Manufacturer URL; ComponentLink1URL: www.maxim-ic.com; ComponentLink2Description: Datasheet; ComponentLink2URL: http://datasheets.maxim-ic.com/en/ds/DS1212.pdf
footprint P28-3 (DIP, 28-Leads, Row Spacing 15.24mm, Pitch 2.54mm, Body 36.8x14mm)
footprint P28-5 (DIP, 28-Leads, Row Spacing 15.24mm, Pitch 2.54mm, Body 36.8x14mm)
pins: 1 VBAT1, 2 VCCO (power), 3 TOL, 4 ~{PF}, 5 ~{CE15} (out), 6 ~{CE14} (out), 7 ~{CE13} (out), 8 ~{CE12} (out), 9 ~{CE11} (out), 10 D (in), 11 C (in), 12 B (in), 13 A (in), 14 GND (power), 15 ~{CE10} (out), 16 ~{CE9} (out), 17 ~{CE8} (out), 18 ~{CE7} (out), 19 ~{CE6} (out), 20 ~{CE5} (out), 21 ~{CE4} (out), 22 ~{CE3} (out), 23 ~{CE2} (out), 24 ~{CE1} (out), 25 ~{CE0} (out), 26 ~{CE} (in), 27 VBAT2, 28 VCCI (power)

## DS1212+
designator U?
Nonvolatile Controller x 16 Chip, 28-pin PDIP, 0° to + 70° C, Pb-Free; DatasheetVersion: 1/11/1999; PackageVersion: revD, 2011; PackageReference: P28+3; PackageDescription: 28-Pin Plastic Dual-In-Line, 0.6in Wide, PDIP(W), Pb-Free; Code_JEDEC: MS-011-AB; ComponentLink1Description: Manufacturer URL; ComponentLink1URL: www.maxim-ic.com; ComponentLink2Description: Datasheet; ComponentLink2URL: http://datasheets.maxim-ic.com/en/ds/DS1212.pdf
footprint P28+3 (DIP, 28-Leads, Row Spacing 15.24mm, Pitch 2.54mm, Body 36.8x14mm)
pins: 1 VBAT1, 2 VCCO (power), 3 TOL, 4 ~{PF}, 5 ~{CE15} (out), 6 ~{CE14} (out), 7 ~{CE13} (out), 8 ~{CE12} (out), 9 ~{CE11} (out), 10 D (in), 11 C (in), 12 B (in), 13 A (in), 14 GND (power), 15 ~{CE10} (out), 16 ~{CE9} (out), 17 ~{CE8} (out), 18 ~{CE7} (out), 19 ~{CE6} (out), 20 ~{CE5} (out), 21 ~{CE4} (out), 22 ~{CE3} (out), 23 ~{CE2} (out), 24 ~{CE1} (out), 25 ~{CE0} (out), 26 ~{CE} (in), 27 VBAT2, 28 VCCI (power)

## DS1212N
designator U?
Nonvolatile Controller x 16 Chip, 28-pin PDIP, -40° to + 85° C; DatasheetVersion: 1/11/1999; PackageVersion: revD, 2011; PackageReference: P28-3; PackageDescription: 28-Pin Plastic Dual-In-Line, 0.6in Wide, PDIP(W); Code_JEDEC: MS-011-AB; ComponentLink1Description: Manufacturer URL; ComponentLink1URL: www.maxim-ic.com; ComponentLink2Description: Datasheet; ComponentLink2URL: http://datasheets.maxim-ic.com/en/ds/DS1212.pdf
footprint P28-3 (DIP, 28-Leads, Row Spacing 15.24mm, Pitch 2.54mm, Body 36.8x14mm)
footprint P28-5 (DIP, 28-Leads, Row Spacing 15.24mm, Pitch 2.54mm, Body 36.8x14mm)
pins: 1 VBAT1, 2 VCCO (power), 3 TOL, 4 ~{PF}, 5 ~{CE15} (out), 6 ~{CE14} (out), 7 ~{CE13} (out), 8 ~{CE12} (out), 9 ~{CE11} (out), 10 D (in), 11 C (in), 12 B (in), 13 A (in), 14 GND (power), 15 ~{CE10} (out), 16 ~{CE9} (out), 17 ~{CE8} (out), 18 ~{CE7} (out), 19 ~{CE6} (out), 20 ~{CE5} (out), 21 ~{CE4} (out), 22 ~{CE3} (out), 23 ~{CE2} (out), 24 ~{CE1} (out), 25 ~{CE0} (out), 26 ~{CE} (in), 27 VBAT2, 28 VCCI (power)

## DS1212Q
designator U?
Nonvolatile Controller x 16 Chip, 28-pin PLCC, 0° to + 70° C; DatasheetVersion: 1/11/1999; PackageVersion: revE, 2009; PackageReference: Q28-4; PackageDescription: 28-Pin Plastic Leaded Chip Carrier 1.27 mm Pitch, PLCC; Code_JEDEC: MO-047-AB; ComponentLink1Description: Manufacturer URL; ComponentLink1URL: www.maxim-ic.com; ComponentLink2Description: Datasheet; ComponentLink2URL: http://datasheets.maxim-ic.com/en/ds/DS1212.pdf
footprint Q28-4_N (Leaded Chip Carrier, 28-Leads, Body 11.5x11.5mm, Pitch 1.27mm, IPC Medium Density)
footprint Q28-4_L (Leaded Chip Carrier, 28-Leads, Body 11.5x11.5mm, Pitch 1.27mm, IPC High Density)
footprint Q28-4_M (Leaded Chip Carrier, 28-Leads, Body 11.5x11.5mm, Pitch 1.27mm, IPC Low Density)
pins: 1 VBAT1, 2 VCCO (power), 3 TOL, 4 ~{PF}, 5 ~{CE15} (out), 6 ~{CE14} (out), 7 ~{CE13} (out), 8 ~{CE12} (out), 9 ~{CE11} (out), 10 D (in), 11 C (in), 12 B (in), 13 A (in), 14 GND (power), 15 ~{CE10} (out), 16 ~{CE9} (out), 17 ~{CE8} (out), 18 ~{CE7} (out), 19 ~{CE6} (out), 20 ~{CE5} (out), 21 ~{CE4} (out), 22 ~{CE3} (out), 23 ~{CE2} (out), 24 ~{CE1} (out), 25 ~{CE0} (out), 26 ~{CE} (in), 27 VBAT2, 28 VCCI (power)

## DS1212QN
designator U?
Nonvolatile Controller x 16 Chip, 28-pin PLCC, -40° to + 85° C; DatasheetVersion: 1/11/1999; PackageVersion: revE, 2009; PackageReference: Q28-4; PackageDescription: 28-Pin Plastic Leaded Chip Carrier 1.27 mm Pitch, PLCC; Code_JEDEC: MO-047-AB; ComponentLink1Description: Manufacturer URL; ComponentLink1URL: www.maxim-ic.com; ComponentLink2Description: Datasheet; ComponentLink2URL: http://datasheets.maxim-ic.com/en/ds/DS1212.pdf
footprint Q28-4_N (Leaded Chip Carrier, 28-Leads, Body 11.5x11.5mm, Pitch 1.27mm, IPC Medium Density)
footprint Q28-4_L (Leaded Chip Carrier, 28-Leads, Body 11.5x11.5mm, Pitch 1.27mm, IPC High Density)
footprint Q28-4_M (Leaded Chip Carrier, 28-Leads, Body 11.5x11.5mm, Pitch 1.27mm, IPC Low Density)
pins: 1 VBAT1, 2 VCCO (power), 3 TOL, 4 ~{PF}, 5 ~{CE15} (out), 6 ~{CE14} (out), 7 ~{CE13} (out), 8 ~{CE12} (out), 9 ~{CE11} (out), 10 D (in), 11 C (in), 12 B (in), 13 A (in), 14 GND (power), 15 ~{CE10} (out), 16 ~{CE9} (out), 17 ~{CE8} (out), 18 ~{CE7} (out), 19 ~{CE6} (out), 20 ~{CE5} (out), 21 ~{CE4} (out), 22 ~{CE3} (out), 23 ~{CE2} (out), 24 ~{CE1} (out), 25 ~{CE0} (out), 26 ~{CE} (in), 27 VBAT2, 28 VCCI (power)

## DS1218
designator U?
Nonvolatile Controller, 8-pin PDIP, 0° to + 70° C; DatasheetVersion: 1/11/1999; PackageVersion: revE, 2011; PackageReference: P8-1; PackageDescription: 8-Pin Plastic Dual-In-Line, Narrow (0.3in), Pitch 2.54 mm, PDIP(N); Code_JEDEC: MS-001-AB; ComponentLink1Description: Manufacturer URL; ComponentLink1URL: www.maxim-ic.com; ComponentLink2Description: Datasheet; ComponentLink2URL: http://datasheets.maxim-ic.com/en/ds/DS1218.pdf
footprint P8-1 (DIP, 8-Leads, Row Spacing 7.62mm, Pitch 2.54mm, Body 9.4x7mm)
pins: 1 VCCO (power), 2 NC, 3 NC, 4 GND (power), 5 ~{CEI} (in), 6 ~{CEO} (out), 7 VBAT, 8 VCCI (power)

## DS1218+
designator U?
Nonvolatile Controller, 8-pin PDIP, 0° to + 70° C, Pb-Free; DatasheetVersion: 1/11/1999; PackageVersion: revE, 2011; PackageReference: P8+1; PackageDescription: 8-Pin Plastic Dual-In-Line, Narrow (0.3in), Pitch 2.54 mm, PDIP(N), Pb-Free; Code_JEDEC: MS-001-AB; ComponentLink1Description: Manufacturer URL; ComponentLink1URL: www.maxim-ic.com; ComponentLink2Description: Datasheet; ComponentLink2URL: http://datasheets.maxim-ic.com/en/ds/DS1218.pdf
footprint P8+1 (DIP, 8-Leads, Row Spacing 7.62mm, Pitch 2.54mm, Body 9.4x7mm)
pins: 1 VCCO (power), 2 NC, 3 NC, 4 GND (power), 5 ~{CEI} (in), 6 ~{CEO} (out), 7 VBAT, 8 VCCI (power)